# Altium schematic symbol library TPS25947x.SchLib: 1 symbol
Pins are listed as number, name and electrical type; pins without a type are passive.

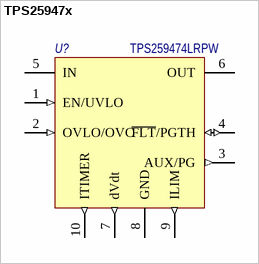
[diagram p0: symbol TPS25947x]

## TPS25947x
designator U?  Наименование: TPS259474LRPW  (hidden comment: TPS25947x)
TPS25947xx, 2.7 - 23 V, 5.5 A, 28-mΩ True Reverse Current Blocking eFuse with Input / Reverse Polarity Protection /; Потребление, Вт: 0,05; Назначение: 2.7 - 23 V, 5.5 A, 28-mΩ True Reverse Current Blocking eFuse with Input; ComponentLink1Description: DataSheet; ComponentLink1URL: https://www.ti.com/lit/ds/symlink/tps25947.pdf?ts=1621925066842&ref_url=https%253A%252F%252Fwww.ti.com%252Fproduct%252FTPS25947%253FkeyMatch%253DTPS25947%2526tisearch%253Dsearch-everything%2526usecase%253DGPN
footprint VQFN-HR-10
pins: 1 EN/UVLO (in) "Enable pin. Pull High to enable the device. Pull Low to disable the device. This pin has an internal pull-down resistor of typically 400kohm when the device is disabled", 2 OVLO/OVC (in) "A Resistor Divider on this pin from supply to GND can be used to adjust.", 3 AUX/PG (out) "Power Good indication. This is an Open Drain signal which is asserted.", 4 ~{FLT}/PGTH (io) "Power Good Threshold.", 5 IN (power) "Input pin.", 6 OUT (power) "Output pin.", 7 dVdt (out) "A capacitor from this pin to GND sets the output turn on slew rate. Leave this pin floating", 8 GND (power), 9 ILIM (out) "Dual function pin used to limit and monitor the output current.", 10 ITIMER (out) "Dual function pin used to limit and monitor the output current."